# EAGLE library part L__TRAFO_1 (library ++Bedrahtet)
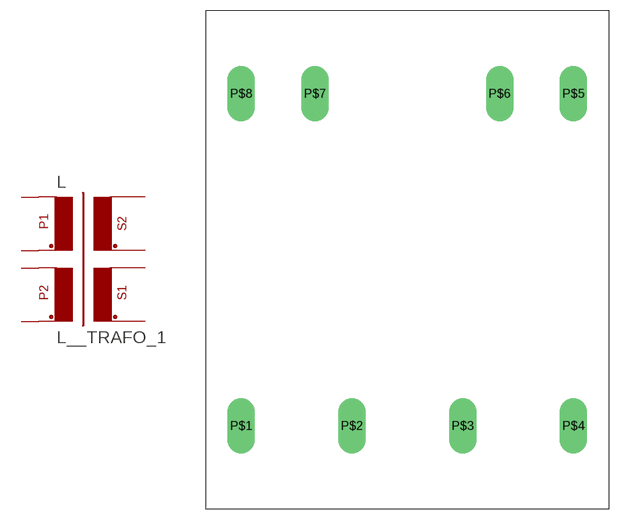
[diagram p5: symbol with the pads of TRAFO1; footprint TRAFO1]

Designator prefix L

## L__TRAFO_1  [TRAFO1]
P$1  P$1
P$2  P$2
P$3  P$3
P$4  P$4
P$5  P$5
P$6  P$6
P$7  P$7
P$8  P$8

## Footprint TRAFO1 (pad centres in mm)
drill 1.2 pad 3.81 long: P$1 -22.86,-22.86; P$2 -7.62,-22.86; P$3 7.62,-22.86; P$4 22.86,-22.86; P$5 22.86,22.86; P$6 12.7,22.86; P$7 -12.7,22.86; P$8 -22.86,22.86